# EAGLE library part CSD87352Q5D (library TI-Eagle_library)
IC, MOSFET, 2N-CH 30V 25A, 8SON
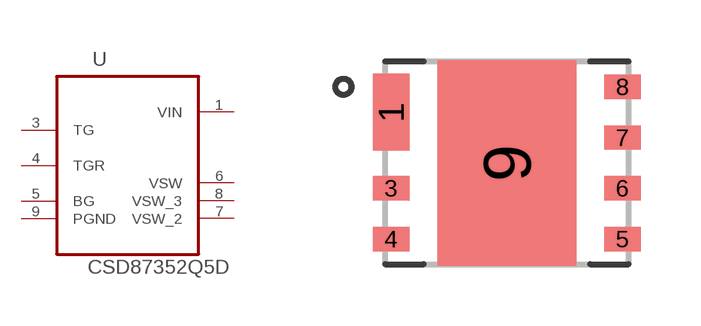
[diagram p11: symbol with the pads of TI_SON-8_DQY; footprint TI_SON-8_DQY]

Designator prefix U

## CSD87352Q5D (MPN: CSD87352Q5D; OC_FARNELL: 1972803; OC_NEWARK: Unknown; PACKAGE: SON- 8; SUPPLIER: TEXAS INSTRUMENTS)  [TI_SON-8_DQY]
1  VIN  pwr
3  TG  pas
4  TGR  pas
5  BG  pas
6  VSW  pas
7  VSW_2  pas
8  VSW_3  pas
9  PGND  pas

## Footprint TI_SON-8_DQY (pad centres in mm)
smd 0.914 x 1.93: 1 -2.896,1.27
smd 0.914 x 0.61: 3 -2.896,-0.635; 4 -2.896,-1.905; 5 2.896,-1.905; 6 2.896,-0.635; 7 2.896,0.635; 8 2.896,1.905
smd 3.48 x 5.156: 9 0,0